# Altium footprint library BH-14.PcbLib: 1 footprints
Each footprint in its own frame and in the unit in brackets; x right, y up, seen from the top. Pads: shape width x height; smd on the part's side, far side on the other; paste and mask are expansions set on the pad; w line width, h text height; cw(c..) or ccw(c..) is an arc to the next point about the centre after c.
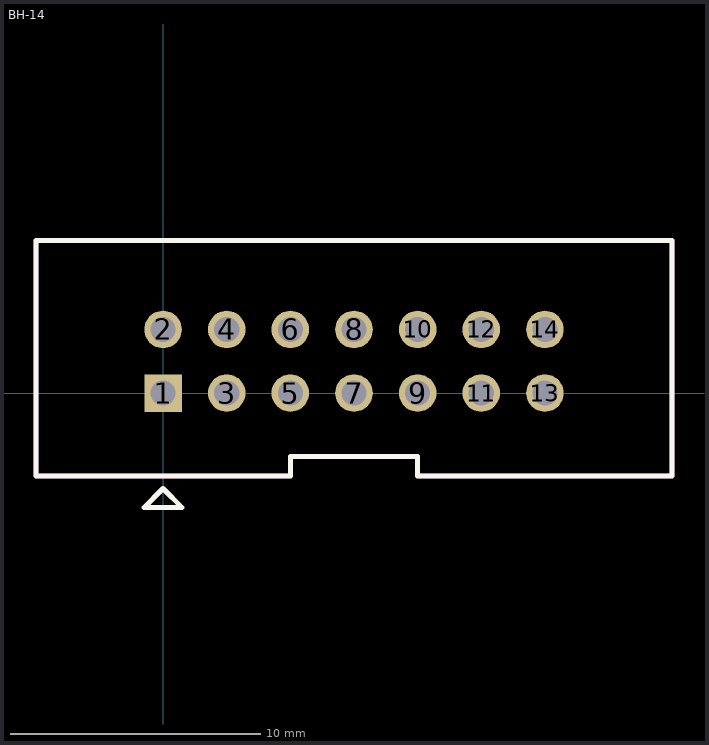
[diagram p0: the footprint, top view; thin cyan lines are the x and y axes]

## BH-14 [mm]
pads (14):
  rect 1.5x1.5 hole 1: 1(0,0)
  round 1.5 hole 1: 2(0,2.54) 3(2.54,0) 4(2.54,2.54) 5(5.08,0) 6(5.08,2.54) 7(7.62,0) 8(7.62,2.54) 9(10.16,0) 10(10.16,2.54) 11(12.7,0) 12(12.7,2.54) 13(15.24,0) 14(15.24,2.54)
Top Overlay:
  lines w0.2: -5.08,-3.302 -5.08,6.096 20.32,6.096 20.32,-3.302 10.16,-3.302 10.16,-2.54 5.08,-2.54 5.08,-3.302 -5.08,-3.302 ; -0.762,-4.572 0,-3.81 0.762,-4.572 -0.762,-4.572
TopAssy:
  lines w0.2: 13.462,-3.302 10.16,-3.302 10.16,-2.54 5.08,-2.54 5.08,-3.302 1.27,-3.302 -5.08,-3.302 -5.08,6.096 20.32,6.096 20.32,-3.302 13.504,-3.302
3D body "User Library-IDC-14MS.STEP": height 9.45, standoff -3.25, extent -5.053,-3.173 20.347,6.177